# Altium schematic symbol library RNC55H1003FMB14.SchLib: 1 symbol
Pins are listed as number, name and electrical type; pins without a type are passive.

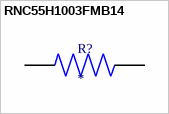
[diagram p0: symbol RNC55H1003FMB14]

## RNC55H1003FMB14
designator R?
RES 100K OHM 1/8W 1% AXIAL; MP: RNC55H1003FMB14; MF: Vishay Dale; SnapEDA_Link: https://www.snapeda.com/parts/RNC55H1003FMB14/Vishay+Dale/view-part/?ref=snap; Availability: In Stock; Check_prices: https://www.snapeda.com/parts/RNC55H1003FMB14/Vishay+Dale/view-part/?ref=eda; Package: None; Price: None; Purchase-URL: https://pricing.snapeda.com/search/part/RNC55H1003FMB14/?ref=eda; Value: *
footprint RESAD1081W64L635D269
pins: 1, 2